# Altium schematic symbol library Caps.SchLib: 9 symbols
Pins are listed as number, name and electrical type; pins without a type are passive.

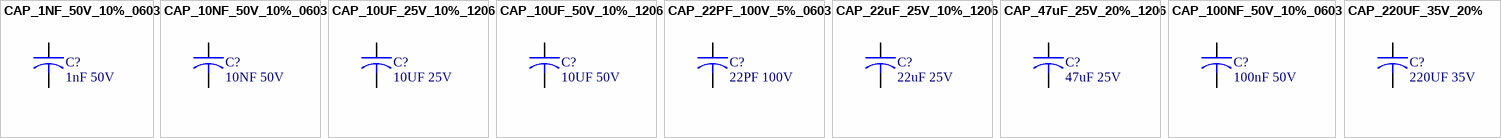
[diagram p0: symbols CAP_1NF_50V_10%_0603 to CAP_220UF_35V_20%]

## CAP_1NF_50V_10%_0603
designator C?, comment 1nF 50V
CAP CER 1nF 50V 10% X7R 0603; Manufacturer: Murata; Manufacturer P/N: GRM188R71H102KA01D
footprint 0603
pins: 1, 2

## CAP_10NF_50V_10%_0603
designator C?, comment 10NF 50V
CAP CER 10NF 50V 10% X7R 0603; Manufacturer: Murata; Manufacturer P/N: GRM188R71H103KA01D
footprint 0603
pins: 1, 2

## CAP_10UF_25V_10%_1206
designator C?, comment 10UF 25V
CAP CER 10UF 25V 10% X5R 1206; Manufacturer: Murata; Manufacturer P/N: GRM319R61E106KA12D
footprint 1206
pins: 1, 2

## CAP_10UF_50V_10%_1206
designator C?, comment 10UF 50V
CAP CER 10UF 50V 10% X5R 1206; Manufacturer: Murata; Manufacturer P/N: GRM31CR61H106KA12L
footprint 1206
pins: 1, 2

## CAP_22PF_100V_5%_0603
designator C?, comment 22PF 100V
CAP CER 22PF 100V 5% NP0 0603; Manufacturer: Murata; Manufacturer P/N: GRM1885C2A220JA01D
footprint 0603
pins: 1, 2

## CAP_22uF_25V_10%_1206
designator C?, comment 22uF 25V
CAP CER 22uF 25V 10% X5R 1206; Manufacturer: Samsung Electro-Mechanics America, Inc.; Manufacturer P/N: CL31A226KAHNNNE
footprint 1206
pins: 1, 2

## CAP_47uF_25V_20%_1206
designator C?, comment 47uF 25V
CAP CER 47uF 25V 20% X5R 1206; Manufacturer: TDK Corporation; Manufacturer P/N: C3216JB1E476M160AC
footprint 1206
pins: 1, 2

## CAP_100NF_50V_10%_0603
designator C?, comment 100nF 50V
CAP CER 100nF 50V 10% X7R 0603; Manufacturer: Murata; Manufacturer P/N: GRM188R71H104KA93D
footprint 0603
pins: 1, 2

## CAP_220UF_35V_20%
designator C?, comment 220UF 35V
CAP CER 220UF 35V 20%; Manufacturer: Kemet; Manufacturer P/N: ESK227M035AH1AA
footprint RB.15/.32
pins: 1, 2